# Altium footprint library 双声道集成功放电路设计.PcbLib: 9 footprints
Each footprint in its own frame and in the unit in brackets; x right, y up, seen from the top. Pads: shape width x height; smd on the part's side, far side on the other; paste and mask are expansions set on the pad; w line width, h text height; cw(c..) or ccw(c..) is an arc to the next point about the centre after c.
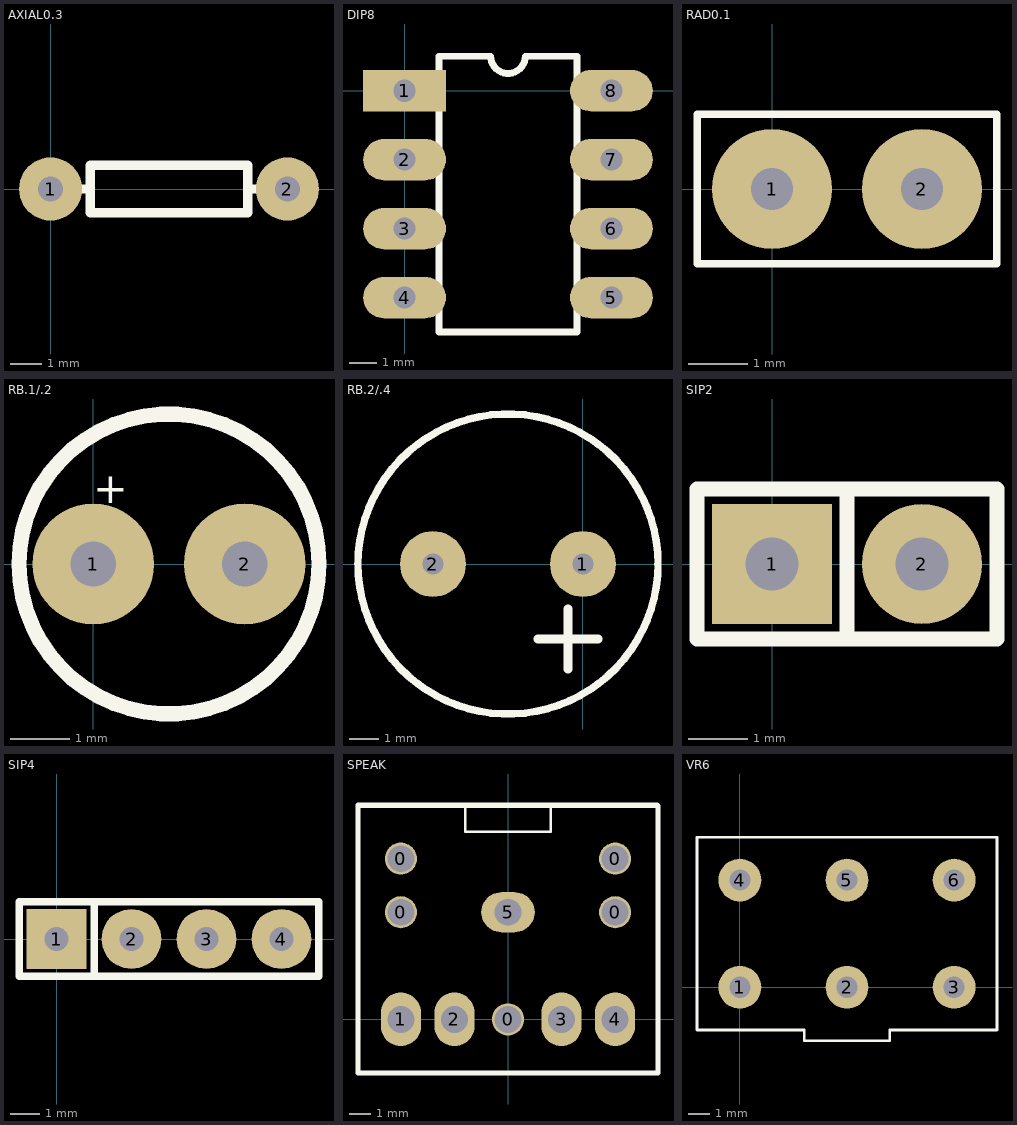
[diagram p0: the footprints below, top view; thin cyan lines are the x and y axes]

## AXIAL0.3 [mil]
pads (2):
  round 80 hole 32: 1(0,0) 2(300,0)
Top Overlay:
  lines w12: 41,0 50,0 ; 259,0 250,0 ; 250,0 250,30 50,30 50,-30 250,-30 250,0

## DIP8 [mil]
pads (8):
  rect 120x60 hole 32: 1(0,0)
  oval 120x60 hole 32: 2(0,-100) 3(0,-200) 4(0,-300) 5(300,-300) 6(300,-200) 7(300,-100) 8(300,0)
Top Overlay:
  lines w10: 50,-350 250,-350 250,50 175,50 cw(c150,50) 125,50 50,50 50,-350

## RAD0.1 [mil]
pads (2):
  round 80 hole 28: 1(0,0) 2(100,0)
Top Overlay:
  lines w5: -50,-50 -50,50 150,50 150,-50 -50,-50

## RB.1/.2 [mil]
pads (2):
  round 80 hole 30: 1(0,0) 2(100,0)
Top Overlay:
  circle w10: c50,0 r99
  text "+" at 0,40 h20

## RB.2/.4 [mil]
pads (2):
  round 88 hole 28: 1(0,0) 2(-200,0)
Top Overlay:
  circle w10: c-100,0 r200
  lines w12: -60,-100 20,-100 ; -20,-140 -20,-60

## SIP2 [mil]
pads (2):
  rect 80x80 hole 35.43: 1(0,0)
  round 80 hole 35.43: 2(100,0)
Top Overlay:
  lines w10: 50,-50 50,50 ; -50,-50 150,-50 150,50 -50,50 -50,-50

## SIP4 [mil]
pads (4):
  rect 80x80 hole 32: 1(0,0)
  round 80 hole 32: 2(100,0) 3(200,0) 4(300,0)
Top Overlay:
  lines w10: 50,-50 50,50 ; -50,-50 350,-50 350,50 -50,50 -50,-50

## SPEAK [mil]
pads (10):
  round 60 hole 50: 0(-200,200) 0(-200,300) 0(0,0) 0(200,200) 0(200,300)
  oval 75x100 hole 50: 1(-200,0) 2(-100,0) 3(100,0) 4(200,0)
  oval 100x75 hole 50: 5(0,200)
Top Overlay:
  lines w5: -80,400 -80,350 80,350 80,400
  lines w10: -280,-100 200,-100 280,-100 280,-80 280,-10 280,0 280,380 280,398 278,400 -280,400 -280,378 -280,-100

## VR6 [mil]
pads (6):
  round 80 hole 39.37: 1(0,0) 2(200,0) 3(400,0) 4(0,200) 5(200,200) 6(400,200)
Top Overlay:
  lines w5: -80,-80 120,-80 120,-100 280,-100 280,-80 480,-80 480,280 -80,280 -80,-80